# EAGLE library part DAC5682Z (library My_TI)
DAC5682Z 16-Bit, 1.0 GSPS 2x-4x Interpolating Dual-Channel Digital-to-Analog Converter • On-Chip 1.2-V Reference • Differential Scalable Output: 2 to 20 mA Datasheet <http://www.ti.com/lit/ds/slls853f/slls853f.pdf>
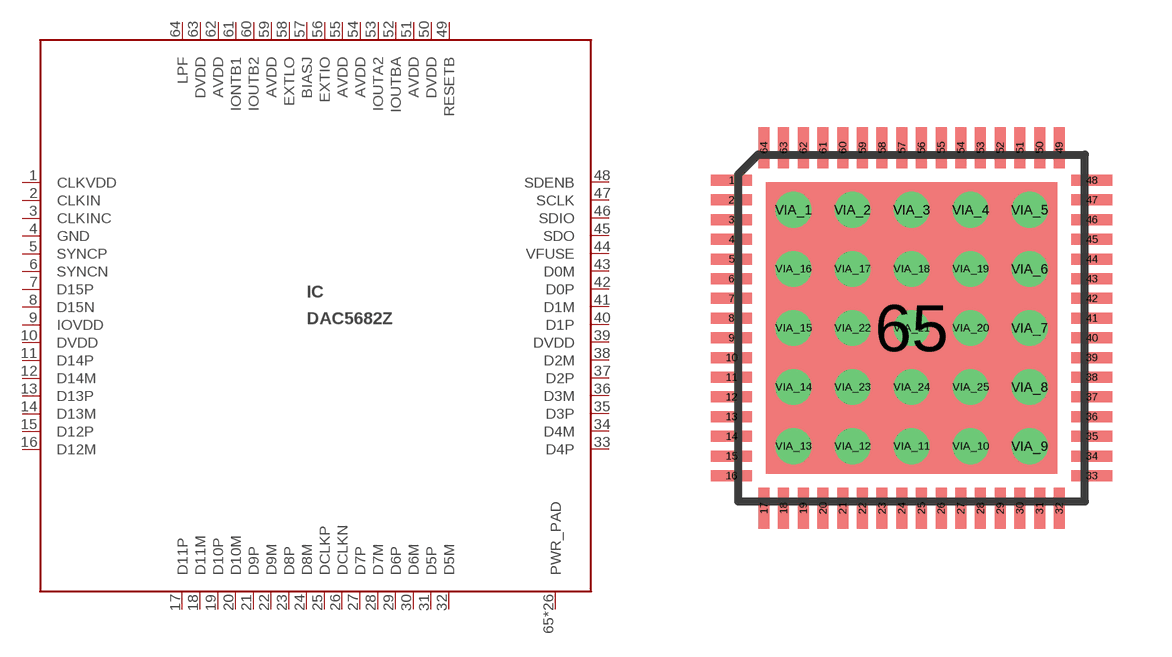
[diagram p41: symbol with the pads of PVQFN64; footprint PVQFN64]

Designator prefix IC

## DAC5682Z  [PVQFN64]
1  CLKVDD  in
2  CLKIN  in
3  CLKINC  in
4  GND  pwr
5  SYNCP  in
6  SYNCN  in
7  D15P  in
8  D15N  in
9  IOVDD  in
10  DVDD  in
11  D14P  in
12  D14M  in
13  D13P  in
14  D13M  in
15  D12P  in
16  D12M  in
17  D11P  in
18  D11M  in
19  D10P  in
20  D10M  in
21  D9P  in
22  D9M  in
23  D8P  in
24  D8M  in
25  DCLKP  in
26  DCLKN  in
27  D7P  in
28  D7M  in
29  D6P  in
30  D6M  in
31  D5P  in
32  D5M  in
33  D4P  in
34  D4M  in
35  D3P  in
36  D3M  in
37  D2P  in
38  D2M  in
39  DVDD  in
40  D1P  in
41  D1M  in
42  D0P  in
43  D0M  in
44  VFUSE  in
45  SDO  out
46  SDIO
47  SCLK  in
48  SDENB  in
49  RESETB  in
50  DVDD  in
51  AVDD  in
52  IOUTBA  out
53  IOUTA2  out
54  AVDD  in
55  AVDD  in
56  EXTIO
57  BIASJ  out
58  EXTLO
59  AVDD  in
60  IOUTB2  out
61  IONTB1  out
62  AVDD  in
63  DVDD  in
64  LPF  in
65  PWR_PAD  in
VIA_1  PWR_PAD  in
VIA_2  PWR_PAD  in
VIA_3  PWR_PAD  in
VIA_4  PWR_PAD  in
VIA_5  PWR_PAD  in
VIA_6  PWR_PAD  in
VIA_7  PWR_PAD  in
VIA_8  PWR_PAD  in
VIA_9  PWR_PAD  in
VIA_10  PWR_PAD  in
VIA_11  PWR_PAD  in
VIA_12  PWR_PAD  in
VIA_13  PWR_PAD  in
VIA_14  PWR_PAD  in
VIA_15  PWR_PAD  in
VIA_16  PWR_PAD  in
VIA_17  PWR_PAD  in
VIA_18  PWR_PAD  in
VIA_19  PWR_PAD  in
VIA_20  PWR_PAD  in
VIA_21  PWR_PAD  in
VIA_22  PWR_PAD  in
VIA_23  PWR_PAD  in
VIA_24  PWR_PAD  in
VIA_25  PWR_PAD  in

## Footprint PVQFN64 (pad centres in mm)
PVQFN64 Auto generated by make-symbol-device-package-bsdl.ulp Rev. 44
smd 1.05 x 0.28: 1 -4.575,3.75; 2 -4.575,3.25; 3 -4.575,2.75; 4 -4.575,2.25; 5 -4.575,1.75; 6 -4.575,1.25; 7 -4.575,0.75; 8 -4.575,0.25; 9 -4.575,-0.25; 10 -4.575,-0.75; 11 -4.575,-1.25; 12 -4.575,-1.75; 13 -4.575,-2.25; 14 -4.575,-2.75; 15 -4.575,-3.25; 16 -4.575,-3.75; 33 4.575,-3.75; 34 4.575,-3.25; 35 4.575,-2.75; 36 4.575,-2.25; 37 4.575,-1.75; 38 4.575,-1.25; 39 4.575,-0.75; 40 4.575,-0.25; 41 4.575,0.25; 42 4.575,0.75; 43 4.575,1.25; 44 4.575,1.75; 45 4.575,2.25; 46 4.575,2.75; 47 4.575,3.25; 48 4.575,3.75
smd 0.28 x 1.05: 17 -3.75,-4.575; 18 -3.25,-4.575; 19 -2.75,-4.575; 20 -2.25,-4.575; 21 -1.75,-4.575; 22 -1.25,-4.575; 23 -0.75,-4.575; 24 -0.25,-4.575; 25 0.25,-4.575; 26 0.75,-4.575; 27 1.25,-4.575; 28 1.75,-4.575; 29 2.25,-4.575; 30 2.75,-4.575; 31 3.25,-4.575; 32 3.75,-4.575; 49 3.75,4.575; 50 3.25,4.575; 51 2.75,4.575; 52 2.25,4.575; 53 1.75,4.575; 54 1.25,4.575; 55 0.75,4.575; 56 0.25,4.575; 57 -0.25,4.575; 58 -0.75,4.575; 59 -1.25,4.575; 60 -1.75,4.575; 61 -2.25,4.575; 62 -2.75,4.575; 63 -3.25,4.575; 64 -3.75,4.575
smd 7.4 x 7.4: 65 0,0
drill 0.4: VIA_1 -3,3; VIA_2 -1.5,3; VIA_3 0,3; VIA_4 1.5,3; VIA_5 3,3; VIA_6 3,1.5; VIA_7 3,0; VIA_8 3,-1.5; VIA_9 3,-3; VIA_10 1.5,-3; VIA_11 0,-3; VIA_12 -1.5,-3; VIA_13 -3,-3; VIA_14 -3,-1.5; VIA_15 -3,0; VIA_16 -3,1.5; VIA_17 -1.5,1.5; VIA_18 0,1.5; VIA_19 1.5,1.5; VIA_20 1.5,0; VIA_21 0,0; VIA_22 -1.5,0; VIA_23 -1.5,-1.5; VIA_24 0,-1.5; VIA_25 1.5,-1.5